# Altium integrated library TI Data Converters Digital to Analog Converter.IntLib: 1533 symbols (part 51 of 99)
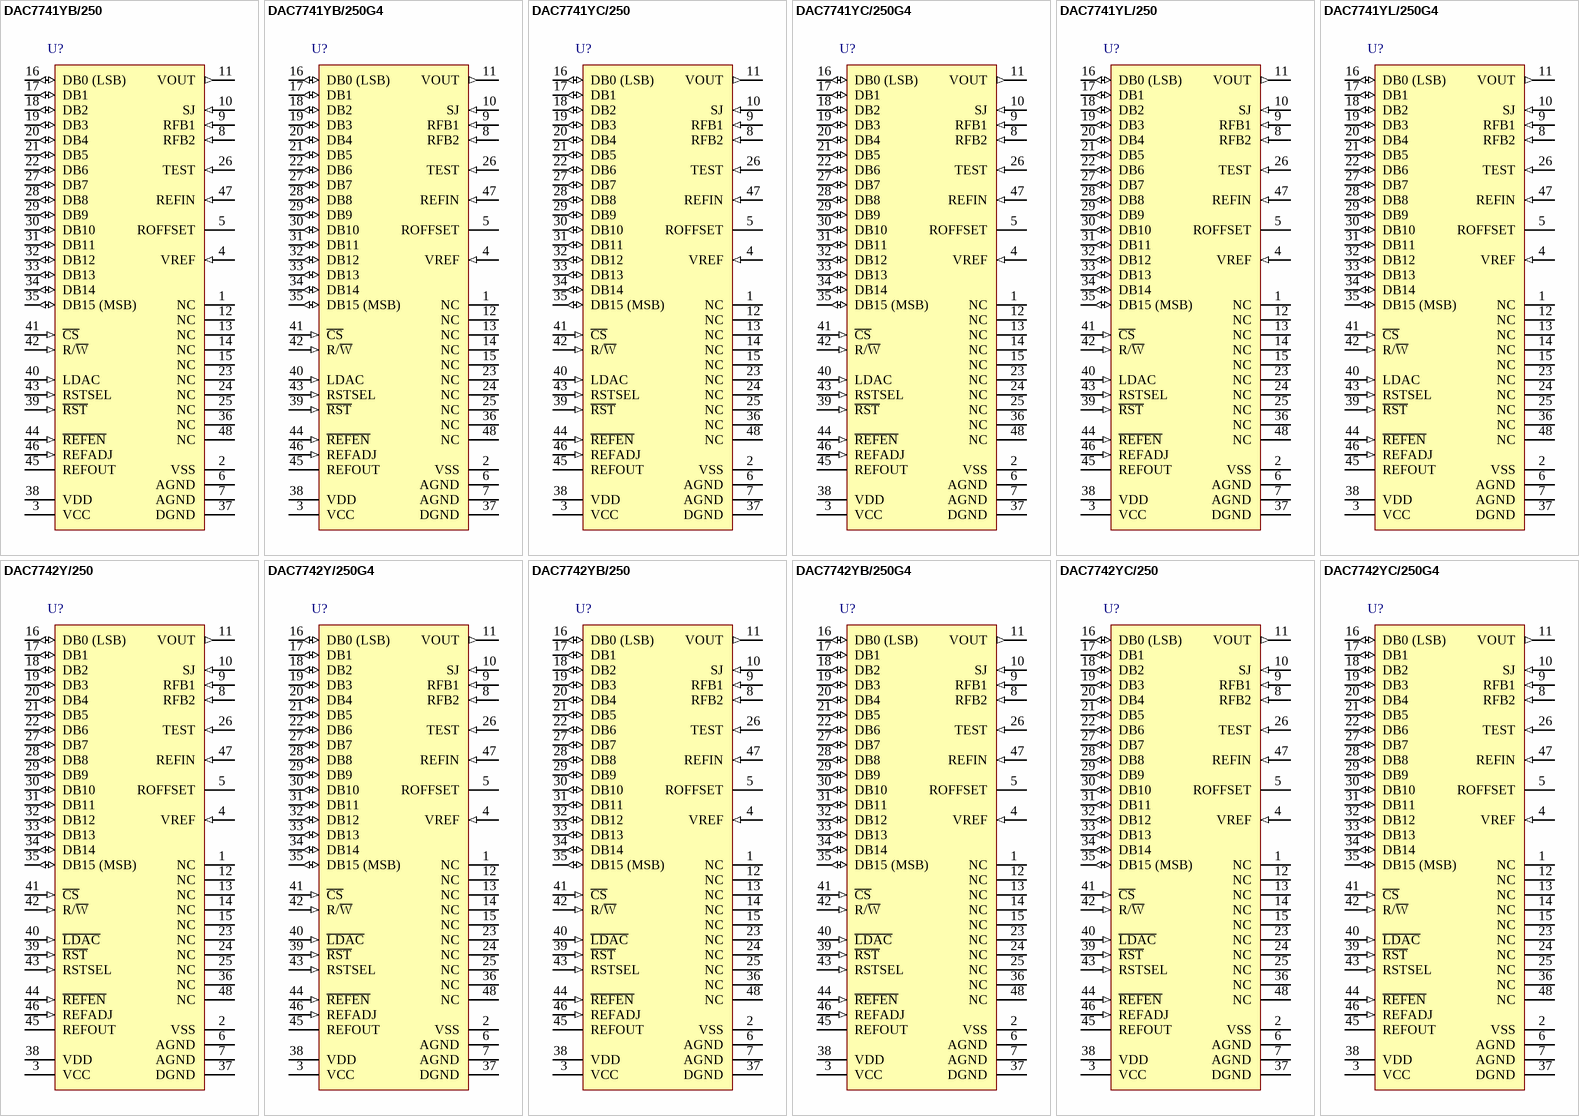
[diagram p123: symbols DAC7741YB/250 to DAC7742YC/250G4]

## DAC7742YC/250
designator U?
16-Bit, Single Channel, Parallel Interface with Internal Reference, -40 to 85 degC, 48-pin QFP (PT48), Green (RoHS & no Sb/Br); Manufacturer: Texas Instruments; PartNumber: DAC7742YC/250; DAC Channels: 1; INL(Max)(+/-LSB): 3; Power Consumption(Typ)(mW): 100; Resolution(Bits): 16; Settling Time(us): 5; SubFamily: Precision DAC (=<10MSPS); DatasheetVersion: SBAS256A; PackageVersion: 4040052/C, 11/1996; PackageReference: PT48; PackageDescription: 48-Pin Plastic Flat Pack, Body 7.00 x 7.00 mm, Pitch 0.50 mm; Supplier 1: Digi-Key; Supplier Part Number 1: 296-14168-2-ND; Supplier 2: Digi-Key; Supplier Part Number 2: 296-14168-1-ND; Supplier 3: Digi-Key; Supplier Part Number 3: 296-14168-6-ND; Supplier 4: Mouser; Supplier Part Number 4: 595-DAC7742YC/250; DNL(Max)(+/-LSB): 1; Eco-Plan: Green (RoHS & no Sb/Br); Interface: Parallel; Mounting Technology: Surface Mount; Code_JEDEC: MS-026; ComponentLink1Description: Manufacturer URL; ComponentLink1URL: http://www.ti.com/; ComponentLink2Description: Datasheet; ComponentLink2URL: http://www.ti.com/general/docs/lit/getliterature.tsp?genericPartNumber=DAC7742&fileType=pdf; ComponentLink3Description: Package Specification; ComponentLink3URL: http://www.ti.com/lit/ml/mtqf003a/mtqf003a.pdf
footprint TI-PT48_N (QFP, 48-Leads, Body 7x7mm, Pitch 0.5mm, IPC Medium Density)
footprint TI-PT48_L (QFP, 48-Leads, Body 7x7mm, Pitch 0.5mm, IPC High Density)
footprint TI-PT48_M (QFP, 48-Leads, Body 7x7mm, Pitch 0.5mm, IPC Low Density)
pins: 1 NC "No Connection", 2 VSS (power) "Negative Analog Power Supply.", 3 VCC (power) "Positive Analog Power Supply.", 4 VREF (in) "Buffered Output from REFIN, can be used to drive external devices. Internally, this pin directly drives the DAC circuitry.", 5 ROFFSET "Offsetting Resistor", 6 AGND (power) "Analog ground (Must be tied to analog ground)", 7 AGND (power) "Analog ground (Must be tied to analog ground)", 8 RFB2 (in) "Feedback Resistor 2, used to configure DAC output range.", 9 RFB1 (in) "Feedback Resistor 1, used to configure DAC output range.", 10 SJ (in) "Summing Junction of the Output Amplifier", 11 VOUT (out) "DAC Voltage Output", 12 NC "No Connection", 13 NC "No Connection", 14 NC "No Connection", 15 NC "No Connection", 16 DB0 (LSB) (io) "Data Bit 0 (LSB)", 17 DB1 (io) "Data Bit 1", 18 DB2 (io) "Data Bit 2", 19 DB3 (io) "Data Bit 3", 20 DB4 (io) "Data Bit 4", 21 DB5 (io) "Data Bit 5", 22 DB6 (io) "Data Bit 6", 23 NC "No Connection", 24 NC "No Connection", 25 NC "No Connection", 26 TEST (in) "Reserved, Connect to DGND", 27 DB7 (io) "Data Bit 7", 28 DB8 (io) "Data Bit 8", 29 DB9 (io) "Data Bit 9", 30 DB10 (io) "Data Bit 10", 31 DB11 (io) "Data Bit 11", 32 DB12 (io) "Data Bit 12", 33 DB13 (io) "Data Bit 13", 34 DB14 (io) "Data Bit 14", 35 DB15 (MSB) (io) "Data Bit 15 (MSB)", 36 NC "No Connection", 37 DGND (power) "Digital Ground", 38 VDD (power) "Digital Power Supply", 39 ~{RST} (in) "VOUT reset; active LOW, depending on the state of RSTSEL, the DAC register is either reset to midscale or min-scale.", 40 ~{LDAC} (in) "DAC register load control, active LOW. Data is loaded from the input register to the DAC register", 41 ~{CS} (in) "loaded from the input register to the DAC register", 42 R/~{W} (in) "Enabled by C\S\, controls data read (HIGH) and write (LOW) from or to the input register.", 43 RSTSEL (in) "Reset Select; determines the action of R\S\T\. If HIGH, R\S\T\ will reset the DAC register to midscale. If LOW, R\S\T\ will reset the DAC register to min-scale.", 44 ~{REFEN} (in) "Enables internal +10V reference (REFOUT), active LOW.", 45 REFOUT (hiz) "Internal Reference Output", 46 REFADJ (in) "Internal Reference Trim. (Acts as a gain adjustment input when the internal reference is used.)", 47 REFIN (in) "Reference Input", 48 NC "No Connection"

## DAC7742YC/250G4
designator U?
16-Bit, Single Channel, Parallel Interface with Internal Reference, -40 to 85 degC, 48-pin QFP (PT48), Green (RoHS & no Sb/Br); Manufacturer: Texas Instruments; PartNumber: DAC7742YC/250G4; DAC Channels: 1; INL(Max)(+/-LSB): 3; Power Consumption(Typ)(mW): 100; Resolution(Bits): 16; Settling Time(us): 5; SubFamily: Precision DAC (=<10MSPS); DatasheetVersion: SBAS256A; PackageVersion: 4040052/C, 11/1996; PackageReference: PT48; PackageDescription: 48-Pin Plastic Flat Pack, Body 7.00 x 7.00 mm, Pitch 0.50 mm; Supplier 1: Digi-Key; Supplier Part Number 1: DAC7742YC/250G4-ND; Supplier 2: Mouser; Supplier Part Number 2: 595-DAC7742YC/250G4; DNL(Max)(+/-LSB): 1; Eco-Plan: Green (RoHS & no Sb/Br); Interface: Parallel; Mounting Technology: Surface Mount; Code_JEDEC: MS-026; ComponentLink1Description: Manufacturer URL; ComponentLink1URL: http://www.ti.com/; ComponentLink2Description: Datasheet; ComponentLink2URL: http://www.ti.com/general/docs/lit/getliterature.tsp?genericPartNumber=DAC7742&fileType=pdf; ComponentLink3Description: Package Specification; ComponentLink3URL: http://www.ti.com/lit/ml/mtqf003a/mtqf003a.pdf
footprint TI-PT48_N (QFP, 48-Leads, Body 7x7mm, Pitch 0.5mm, IPC Medium Density)
footprint TI-PT48_L (QFP, 48-Leads, Body 7x7mm, Pitch 0.5mm, IPC High Density)
footprint TI-PT48_M (QFP, 48-Leads, Body 7x7mm, Pitch 0.5mm, IPC Low Density)
pins: 1 NC "No Connection", 2 VSS (power) "Negative Analog Power Supply.", 3 VCC (power) "Positive Analog Power Supply.", 4 VREF (in) "Buffered Output from REFIN, can be used to drive external devices. Internally, this pin directly drives the DAC circuitry.", 5 ROFFSET "Offsetting Resistor", 6 AGND (power) "Analog ground (Must be tied to analog ground)", 7 AGND (power) "Analog ground (Must be tied to analog ground)", 8 RFB2 (in) "Feedback Resistor 2, used to configure DAC output range.", 9 RFB1 (in) "Feedback Resistor 1, used to configure DAC output range.", 10 SJ (in) "Summing Junction of the Output Amplifier", 11 VOUT (out) "DAC Voltage Output", 12 NC "No Connection", 13 NC "No Connection", 14 NC "No Connection", 15 NC "No Connection", 16 DB0 (LSB) (io) "Data Bit 0 (LSB)", 17 DB1 (io) "Data Bit 1", 18 DB2 (io) "Data Bit 2", 19 DB3 (io) "Data Bit 3", 20 DB4 (io) "Data Bit 4", 21 DB5 (io) "Data Bit 5", 22 DB6 (io) "Data Bit 6", 23 NC "No Connection", 24 NC "No Connection", 25 NC "No Connection", 26 TEST (in) "Reserved, Connect to DGND", 27 DB7 (io) "Data Bit 7", 28 DB8 (io) "Data Bit 8", 29 DB9 (io) "Data Bit 9", 30 DB10 (io) "Data Bit 10", 31 DB11 (io) "Data Bit 11", 32 DB12 (io) "Data Bit 12", 33 DB13 (io) "Data Bit 13", 34 DB14 (io) "Data Bit 14", 35 DB15 (MSB) (io) "Data Bit 15 (MSB)", 36 NC "No Connection", 37 DGND (power) "Digital Ground", 38 VDD (power) "Digital Power Supply", 39 ~{RST} (in) "VOUT reset; active LOW, depending on the state of RSTSEL, the DAC register is either reset to midscale or min-scale.", 40 ~{LDAC} (in) "DAC register load control, active LOW. Data is loaded from the input register to the DAC register", 41 ~{CS} (in) "loaded from the input register to the DAC register", 42 R/~{W} (in) "Enabled by C\S\, controls data read (HIGH) and write (LOW) from or to the input register.", 43 RSTSEL (in) "Reset Select; determines the action of R\S\T\. If HIGH, R\S\T\ will reset the DAC register to midscale. If LOW, R\S\T\ will reset the DAC register to min-scale.", 44 ~{REFEN} (in) "Enables internal +10V reference (REFOUT), active LOW.", 45 REFOUT (hiz) "Internal Reference Output", 46 REFADJ (in) "Internal Reference Trim. (Acts as a gain adjustment input when the internal reference is used.)", 47 REFIN (in) "Reference Input", 48 NC "No Connection"

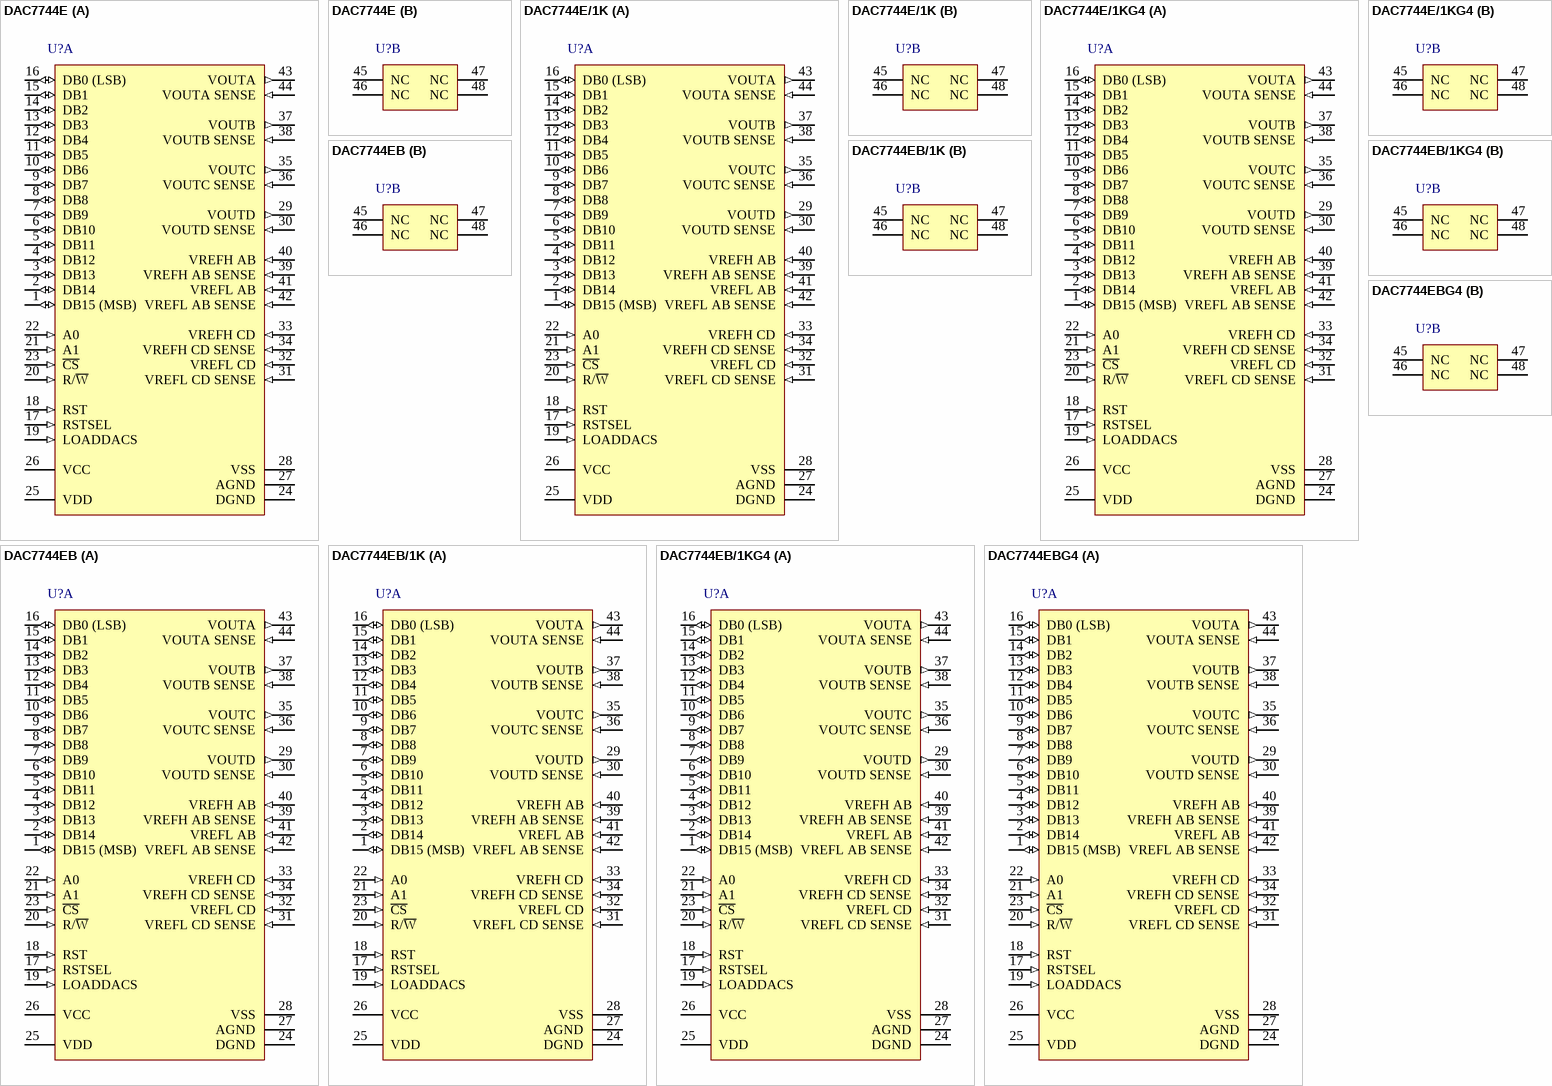
[diagram p40: symbols DAC7744E to DAC7744EBG4]

## DAC7744E
designator U?
16-Bit, Quad Voltage Output DAC, -40 to 85 degC, 48-pin SOP (DL48), Green (RoHS & no Sb/Br); Manufacturer: Texas Instruments; PartNumber: DAC7744E; DAC Channels: 4; DNL(Max)(+/-LSB): 3; Interface: Parallel; Resolution(Bits): 16; Settling Time(us): 10; SubFamily: Precision DAC (=<10MSPS); DatasheetVersion: SBAS120; PackageVersion: 4040048/E, 12/2001; PackageReference: DL48; PackageDescription: 48-Pin Plastic Small Outline, Body 7.49 x 15.88 mm, Pitch 0.635 mm; Supplier 1: Digi-Key; Supplier Part Number 1: DAC7744E-ND; Supplier 2: Mouser; Supplier Part Number 2: 595-DAC7744E; Eco-Plan: Green (RoHS & no Sb/Br); INL(Max)(+/-LSB): 3; Mounting Technology: Surface Mount; Code_JEDEC: MO-118; ComponentLink1Description: Manufacturer URL; ComponentLink1URL: http://www.ti.com/; ComponentLink2Description: Datasheet; ComponentLink2URL: http://www.ti.com/general/docs/lit/getliterature.tsp?genericPartNumber=DAC7744&fileType=pdf; ComponentLink3Description: Package Specification; ComponentLink3URL: http://www.ti.com/lit/ml/msso001c/msso001c.pdf
footprint TI-DL48_N (SOP, 48-Leads, Body 15.88x7.49mm, Pitch 0.635mm, IPC Medium Density)
footprint TI-DL48_L (SOP, 48-Leads, Body 15.88x7.49mm, Pitch 0.635mm, IPC High Density)
footprint TI-DL48_M (SOP, 48-Leads, Body 15.88x7.49mm, Pitch 0.635mm, IPC Low Density)
part A pins: 1 DB15 (MSB) (io) "Data Bit 15, MSB", 2 DB14 (io) "Data Bit 14", 3 DB13 (io) "Data Bit 13", 4 DB12 (io) "Data Bit 12", 5 DB11 (io) "Data Bit 11", 6 DB10 (io) "Data Bit 10", 7 DB9 (io) "Data Bit 9", 8 DB8 (io) "Data Bit 8", 9 DB7 (io) "Data Bit 7", 10 DB6 (io) "Data Bit 6", 11 DB5 (io) "Data Bit 5", 12 DB4 (io) "Data Bit 4", 13 DB3 (io) "Data Bit 3", 14 DB2 (io) "Data Bit 2", 15 DB1 (io) "Data Bit 1", 16 DB0 (LSB) (io) "Data Bit 0, LSB", 17 RSTSEL (in) "Reset Select. Determines the action of RST. If HIGH, a RST command will set the DAC registers to mid-scale. If LOW, a RST command will set the DAC registers to zero.", 18 RST (in) "Reset, Rising Edge Triggered. Depending on the state of RSTSEL, the DAC registers are set to either mid-scale or zero.", 19 LOADDACS (in) "DAC Output Registers Load Control. Rising edge triggered.", 20 R/~{W} (in) "Enabled by the C\S\, Controls Data Read and Write from the Input Registers.", 21 A1 (in) "Enabled by the C\S\, in Combination With A0 Selects the Individual DAC Input Registers.", 22 A0 (in) "Enabled by the C\S\, in Combination With A1 Selects the Individual DAC Input Registers.", 23 ~{CS} (in) "Chip Select. Active LOW.", 24 DGND (power) "Digital Ground", 25 VDD (power) "Positive Power Supply (digital)", 26 VCC (power) "Positive Power Supply (analog)", 27 AGND (power) "Analog Ground", 28 VSS (power) "Negative Power Supply", 29 VOUTD (out) "DAC D Voltage Output", 30 VOUTD SENSE (in) "DAC D’s Output Amplifier Inverting Input. Used to close the feedback loop at the load.", 31 VREFL CD SENSE (in) "DAC C and D Reference Low Sense Input", 32 VREFL CD (in) "DAC C and D Reference Low Input", 33 VREFH CD (in) "DAC C and D Reference High Input", 34 VREFH CD SENSE (in) "DAC C and D Reference High Sense Input", 35 VOUTC (out) "DAC C Voltage Output", 36 VOUTC SENSE (in) "DAC C’s Output Amplifier Inverting Input. Used to close the feedback loop at the load.", 37 VOUTB (out) "DAC B Voltage Output", 38 VOUTB SENSE (in) "DAC B’s Output Amplifier Inverting Input. Used to close the feedback loop at the load.", 39 VREFH AB SENSE (in) "DAC A and B Reference High Sense Input", 40 VREFH AB (in) "DAC A and B Reference High Input", 41 VREFL AB (in) "DAC A and B Reference Low Input", 42 VREFL AB SENSE (in) "DAC A and B Reference Low Sense Input", 43 VOUTA (out) "DAC A Voltage Output", 44 VOUTA SENSE (in) "DAC A’s Output Amplifier Inverting Input. Used to close the feedback loop at the load."
part B pins: 45 NC "No Connection", 46 NC "No Connection", 47 NC "No Connection", 48 NC "No Connection"

## DAC7744E/1K
designator U?
16-Bit, Quad Voltage Output DAC, -40 to 85 degC, 48-pin SOP (DL48), Green (RoHS & no Sb/Br); Manufacturer: Texas Instruments; PartNumber: DAC7744E/1K; DAC Channels: 4; DNL(Max)(+/-LSB): 3; Interface: Parallel; Resolution(Bits): 16; Settling Time(us): 10; SubFamily: Precision DAC (=<10MSPS); DatasheetVersion: SBAS120; PackageVersion: 4040048/E, 12/2001; PackageReference: DL48; PackageDescription: 48-Pin Plastic Small Outline, Body 7.49 x 15.88 mm, Pitch 0.635 mm; Supplier 1: Digi-Key; Supplier Part Number 1: DAC7744E/1K-ND; Supplier 2: Mouser; Supplier Part Number 2: 595-DAC7744E/1K; Eco-Plan: Green (RoHS & no Sb/Br); INL(Max)(+/-LSB): 3; Mounting Technology: Surface Mount; Code_JEDEC: MO-118; ComponentLink1Description: Manufacturer URL; ComponentLink1URL: http://www.ti.com/; ComponentLink2Description: Datasheet; ComponentLink2URL: http://www.ti.com/general/docs/lit/getliterature.tsp?genericPartNumber=DAC7744&fileType=pdf; ComponentLink3Description: Package Specification; ComponentLink3URL: http://www.ti.com/lit/ml/msso001c/msso001c.pdf
footprint TI-DL48_N (SOP, 48-Leads, Body 15.88x7.49mm, Pitch 0.635mm, IPC Medium Density)
footprint TI-DL48_L (SOP, 48-Leads, Body 15.88x7.49mm, Pitch 0.635mm, IPC High Density)
footprint TI-DL48_M (SOP, 48-Leads, Body 15.88x7.49mm, Pitch 0.635mm, IPC Low Density)
part A pins: 1 DB15 (MSB) (io) "Data Bit 15, MSB", 2 DB14 (io) "Data Bit 14", 3 DB13 (io) "Data Bit 13", 4 DB12 (io) "Data Bit 12", 5 DB11 (io) "Data Bit 11", 6 DB10 (io) "Data Bit 10", 7 DB9 (io) "Data Bit 9", 8 DB8 (io) "Data Bit 8", 9 DB7 (io) "Data Bit 7", 10 DB6 (io) "Data Bit 6", 11 DB5 (io) "Data Bit 5", 12 DB4 (io) "Data Bit 4", 13 DB3 (io) "Data Bit 3", 14 DB2 (io) "Data Bit 2", 15 DB1 (io) "Data Bit 1", 16 DB0 (LSB) (io) "Data Bit 0, LSB", 17 RSTSEL (in) "Reset Select. Determines the action of RST. If HIGH, a RST command will set the DAC registers to mid-scale. If LOW, a RST command will set the DAC registers to zero.", 18 RST (in) "Reset, Rising Edge Triggered. Depending on the state of RSTSEL, the DAC registers are set to either mid-scale or zero.", 19 LOADDACS (in) "DAC Output Registers Load Control. Rising edge triggered.", 20 R/~{W} (in) "Enabled by the C\S\, Controls Data Read and Write from the Input Registers.", 21 A1 (in) "Enabled by the C\S\, in Combination With A0 Selects the Individual DAC Input Registers.", 22 A0 (in) "Enabled by the C\S\, in Combination With A1 Selects the Individual DAC Input Registers.", 23 ~{CS} (in) "Chip Select. Active LOW.", 24 DGND (power) "Digital Ground", 25 VDD (power) "Positive Power Supply (digital)", 26 VCC (power) "Positive Power Supply (analog)", 27 AGND (power) "Analog Ground", 28 VSS (power) "Negative Power Supply", 29 VOUTD (out) "DAC D Voltage Output", 30 VOUTD SENSE (in) "DAC D’s Output Amplifier Inverting Input. Used to close the feedback loop at the load.", 31 VREFL CD SENSE (in) "DAC C and D Reference Low Sense Input", 32 VREFL CD (in) "DAC C and D Reference Low Input", 33 VREFH CD (in) "DAC C and D Reference High Input", 34 VREFH CD SENSE (in) "DAC C and D Reference High Sense Input", 35 VOUTC (out) "DAC C Voltage Output", 36 VOUTC SENSE (in) "DAC C’s Output Amplifier Inverting Input. Used to close the feedback loop at the load.", 37 VOUTB (out) "DAC B Voltage Output", 38 VOUTB SENSE (in) "DAC B’s Output Amplifier Inverting Input. Used to close the feedback loop at the load.", 39 VREFH AB SENSE (in) "DAC A and B Reference High Sense Input", 40 VREFH AB (in) "DAC A and B Reference High Input", 41 VREFL AB (in) "DAC A and B Reference Low Input", 42 VREFL AB SENSE (in) "DAC A and B Reference Low Sense Input", 43 VOUTA (out) "DAC A Voltage Output", 44 VOUTA SENSE (in) "DAC A’s Output Amplifier Inverting Input. Used to close the feedback loop at the load."
part B pins: 45 NC "No Connection", 46 NC "No Connection", 47 NC "No Connection", 48 NC "No Connection"

## DAC7744E/1KG4
designator U?
16-Bit, Quad Voltage Output DAC, -40 to 85 degC, 48-pin SOP (DL48), Green (RoHS & no Sb/Br); Manufacturer: Texas Instruments; PartNumber: DAC7744E/1KG4; DAC Channels: 4; DNL(Max)(+/-LSB): 3; Interface: Parallel; Resolution(Bits): 16; Settling Time(us): 10; SubFamily: Precision DAC (=<10MSPS); DatasheetVersion: SBAS120; PackageVersion: 4040048/E, 12/2001; PackageReference: DL48; PackageDescription: 48-Pin Plastic Small Outline, Body 7.49 x 15.88 mm, Pitch 0.635 mm; Supplier 1: Digi-Key; Supplier Part Number 1: DAC7744E/1KG4-ND; Supplier 2: Mouser; Supplier Part Number 2: 595-DAC7744E/1KG4; Eco-Plan: Green (RoHS & no Sb/Br); INL(Max)(+/-LSB): 3; Mounting Technology: Surface Mount; Code_JEDEC: MO-118; ComponentLink1Description: Manufacturer URL; ComponentLink1URL: http://www.ti.com/; ComponentLink2Description: Datasheet; ComponentLink2URL: http://www.ti.com/general/docs/lit/getliterature.tsp?genericPartNumber=DAC7744&fileType=pdf; ComponentLink3Description: Package Specification; ComponentLink3URL: http://www.ti.com/lit/ml/msso001c/msso001c.pdf
footprint TI-DL48_N (SOP, 48-Leads, Body 15.88x7.49mm, Pitch 0.635mm, IPC Medium Density)
footprint TI-DL48_L (SOP, 48-Leads, Body 15.88x7.49mm, Pitch 0.635mm, IPC High Density)
footprint TI-DL48_M (SOP, 48-Leads, Body 15.88x7.49mm, Pitch 0.635mm, IPC Low Density)
part A pins: 1 DB15 (MSB) (io) "Data Bit 15, MSB", 2 DB14 (io) "Data Bit 14", 3 DB13 (io) "Data Bit 13", 4 DB12 (io) "Data Bit 12", 5 DB11 (io) "Data Bit 11", 6 DB10 (io) "Data Bit 10", 7 DB9 (io) "Data Bit 9", 8 DB8 (io) "Data Bit 8", 9 DB7 (io) "Data Bit 7", 10 DB6 (io) "Data Bit 6", 11 DB5 (io) "Data Bit 5", 12 DB4 (io) "Data Bit 4", 13 DB3 (io) "Data Bit 3", 14 DB2 (io) "Data Bit 2", 15 DB1 (io) "Data Bit 1", 16 DB0 (LSB) (io) "Data Bit 0, LSB", 17 RSTSEL (in) "Reset Select. Determines the action of RST. If HIGH, a RST command will set the DAC registers to mid-scale. If LOW, a RST command will set the DAC registers to zero.", 18 RST (in) "Reset, Rising Edge Triggered. Depending on the state of RSTSEL, the DAC registers are set to either mid-scale or zero.", 19 LOADDACS (in) "DAC Output Registers Load Control. Rising edge triggered.", 20 R/~{W} (in) "Enabled by the C\S\, Controls Data Read and Write from the Input Registers.", 21 A1 (in) "Enabled by the C\S\, in Combination With A0 Selects the Individual DAC Input Registers.", 22 A0 (in) "Enabled by the C\S\, in Combination With A1 Selects the Individual DAC Input Registers.", 23 ~{CS} (in) "Chip Select. Active LOW.", 24 DGND (power) "Digital Ground", 25 VDD (power) "Positive Power Supply (digital)", 26 VCC (power) "Positive Power Supply (analog)", 27 AGND (power) "Analog Ground", 28 VSS (power) "Negative Power Supply", 29 VOUTD (out) "DAC D Voltage Output", 30 VOUTD SENSE (in) "DAC D’s Output Amplifier Inverting Input. Used to close the feedback loop at the load.", 31 VREFL CD SENSE (in) "DAC C and D Reference Low Sense Input", 32 VREFL CD (in) "DAC C and D Reference Low Input", 33 VREFH CD (in) "DAC C and D Reference High Input", 34 VREFH CD SENSE (in) "DAC C and D Reference High Sense Input", 35 VOUTC (out) "DAC C Voltage Output", 36 VOUTC SENSE (in) "DAC C’s Output Amplifier Inverting Input. Used to close the feedback loop at the load.", 37 VOUTB (out) "DAC B Voltage Output", 38 VOUTB SENSE (in) "DAC B’s Output Amplifier Inverting Input. Used to close the feedback loop at the load.", 39 VREFH AB SENSE (in) "DAC A and B Reference High Sense Input", 40 VREFH AB (in) "DAC A and B Reference High Input", 41 VREFL AB (in) "DAC A and B Reference Low Input", 42 VREFL AB SENSE (in) "DAC A and B Reference Low Sense Input", 43 VOUTA (out) "DAC A Voltage Output", 44 VOUTA SENSE (in) "DAC A’s Output Amplifier Inverting Input. Used to close the feedback loop at the load."
part B pins: 45 NC "No Connection", 46 NC "No Connection", 47 NC "No Connection", 48 NC "No Connection"

## DAC7744EB
designator U?
16-Bit, Quad Voltage Output DAC, -40 to 85 degC, 48-pin SOP (DL48), Green (RoHS & no Sb/Br); Manufacturer: Texas Instruments; PartNumber: DAC7744EB; DAC Channels: 4; DNL(Max)(+/-LSB): 2; INL(Max)(+/-LSB): 3; Interface: Parallel; Resolution(Bits): 16; Settling Time(us): 10; SubFamily: Precision DAC (=<10MSPS); DatasheetVersion: SBAS120; PackageVersion: 4040048/E, 12/2001; PackageReference: DL48; PackageDescription: 48-Pin Plastic Small Outline, Body 7.49 x 15.88 mm, Pitch 0.635 mm; Supplier 1: Digi-Key; Supplier Part Number 1: DAC7744EB-ND; Supplier 2: Farnell; Supplier Part Number 2: 1460231; Supplier 3: Mouser; Supplier Part Number 3: 595-DAC7744EB; Eco-Plan: Green (RoHS & no Sb/Br); Mounting Technology: Surface Mount; Code_JEDEC: MO-118; ComponentLink1Description: Manufacturer URL; ComponentLink1URL: http://www.ti.com/; ComponentLink2Description: Datasheet; ComponentLink2URL: http://www.ti.com/general/docs/lit/getliterature.tsp?genericPartNumber=DAC7744&fileType=pdf; ComponentLink3Description: Package Specification; ComponentLink3URL: http://www.ti.com/lit/ml/msso001c/msso001c.pdf
footprint TI-DL48_N (SOP, 48-Leads, Body 15.88x7.49mm, Pitch 0.635mm, IPC Medium Density)
footprint TI-DL48_L (SOP, 48-Leads, Body 15.88x7.49mm, Pitch 0.635mm, IPC High Density)
footprint TI-DL48_M (SOP, 48-Leads, Body 15.88x7.49mm, Pitch 0.635mm, IPC Low Density)
part A pins: 1 DB15 (MSB) (io) "Data Bit 15, MSB", 2 DB14 (io) "Data Bit 14", 3 DB13 (io) "Data Bit 13", 4 DB12 (io) "Data Bit 12", 5 DB11 (io) "Data Bit 11", 6 DB10 (io) "Data Bit 10", 7 DB9 (io) "Data Bit 9", 8 DB8 (io) "Data Bit 8", 9 DB7 (io) "Data Bit 7", 10 DB6 (io) "Data Bit 6", 11 DB5 (io) "Data Bit 5", 12 DB4 (io) "Data Bit 4", 13 DB3 (io) "Data Bit 3", 14 DB2 (io) "Data Bit 2", 15 DB1 (io) "Data Bit 1", 16 DB0 (LSB) (io) "Data Bit 0, LSB", 17 RSTSEL (in) "Reset Select. Determines the action of RST. If HIGH, a RST command will set the DAC registers to mid-scale. If LOW, a RST command will set the DAC registers to zero.", 18 RST (in) "Reset, Rising Edge Triggered. Depending on the state of RSTSEL, the DAC registers are set to either mid-scale or zero.", 19 LOADDACS (in) "DAC Output Registers Load Control. Rising edge triggered.", 20 R/~{W} (in) "Enabled by the C\S\, Controls Data Read and Write from the Input Registers.", 21 A1 (in) "Enabled by the C\S\, in Combination With A0 Selects the Individual DAC Input Registers.", 22 A0 (in) "Enabled by the C\S\, in Combination With A1 Selects the Individual DAC Input Registers.", 23 ~{CS} (in) "Chip Select. Active LOW.", 24 DGND (power) "Digital Ground", 25 VDD (power) "Positive Power Supply (digital)", 26 VCC (power) "Positive Power Supply (analog)", 27 AGND (power) "Analog Ground", 28 VSS (power) "Negative Power Supply", 29 VOUTD (out) "DAC D Voltage Output", 30 VOUTD SENSE (in) "DAC D’s Output Amplifier Inverting Input. Used to close the feedback loop at the load.", 31 VREFL CD SENSE (in) "DAC C and D Reference Low Sense Input", 32 VREFL CD (in) "DAC C and D Reference Low Input", 33 VREFH CD (in) "DAC C and D Reference High Input", 34 VREFH CD SENSE (in) "DAC C and D Reference High Sense Input", 35 VOUTC (out) "DAC C Voltage Output", 36 VOUTC SENSE (in) "DAC C’s Output Amplifier Inverting Input. Used to close the feedback loop at the load.", 37 VOUTB (out) "DAC B Voltage Output", 38 VOUTB SENSE (in) "DAC B’s Output Amplifier Inverting Input. Used to close the feedback loop at the load.", 39 VREFH AB SENSE (in) "DAC A and B Reference High Sense Input", 40 VREFH AB (in) "DAC A and B Reference High Input", 41 VREFL AB (in) "DAC A and B Reference Low Input", 42 VREFL AB SENSE (in) "DAC A and B Reference Low Sense Input", 43 VOUTA (out) "DAC A Voltage Output", 44 VOUTA SENSE (in) "DAC A’s Output Amplifier Inverting Input. Used to close the feedback loop at the load."
part B pins: 45 NC "No Connection", 46 NC "No Connection", 47 NC "No Connection", 48 NC "No Connection"

## DAC7744EB/1K
designator U?
16-Bit, Quad Voltage Output DAC, -40 to 85 degC, 48-pin SOP (DL48), Green (RoHS & no Sb/Br); Manufacturer: Texas Instruments; PartNumber: DAC7744EB/1K; DAC Channels: 4; DNL(Max)(+/-LSB): 2; INL(Max)(+/-LSB): 3; Interface: Parallel; Resolution(Bits): 16; Settling Time(us): 10; SubFamily: Precision DAC (=<10MSPS); DatasheetVersion: SBAS120; PackageVersion: 4040048/E, 12/2001; PackageReference: DL48; PackageDescription: 48-Pin Plastic Small Outline, Body 7.49 x 15.88 mm, Pitch 0.635 mm; Supplier 1: Digi-Key; Supplier Part Number 1: DAC7744EB/1K-ND; Supplier 2: Mouser; Supplier Part Number 2: 595-DAC7744EB/1K; Eco-Plan: Green (RoHS & no Sb/Br); Mounting Technology: Surface Mount; Code_JEDEC: MO-118; ComponentLink1Description: Manufacturer URL; ComponentLink1URL: http://www.ti.com/; ComponentLink2Description: Datasheet; ComponentLink2URL: http://www.ti.com/general/docs/lit/getliterature.tsp?genericPartNumber=DAC7744&fileType=pdf; ComponentLink3Description: Package Specification; ComponentLink3URL: http://www.ti.com/lit/ml/msso001c/msso001c.pdf
footprint TI-DL48_N (SOP, 48-Leads, Body 15.88x7.49mm, Pitch 0.635mm, IPC Medium Density)
footprint TI-DL48_L (SOP, 48-Leads, Body 15.88x7.49mm, Pitch 0.635mm, IPC High Density)
footprint TI-DL48_M (SOP, 48-Leads, Body 15.88x7.49mm, Pitch 0.635mm, IPC Low Density)
part A pins: 1 DB15 (MSB) (io) "Data Bit 15, MSB", 2 DB14 (io) "Data Bit 14", 3 DB13 (io) "Data Bit 13", 4 DB12 (io) "Data Bit 12", 5 DB11 (io) "Data Bit 11", 6 DB10 (io) "Data Bit 10", 7 DB9 (io) "Data Bit 9", 8 DB8 (io) "Data Bit 8", 9 DB7 (io) "Data Bit 7", 10 DB6 (io) "Data Bit 6", 11 DB5 (io) "Data Bit 5", 12 DB4 (io) "Data Bit 4", 13 DB3 (io) "Data Bit 3", 14 DB2 (io) "Data Bit 2", 15 DB1 (io) "Data Bit 1", 16 DB0 (LSB) (io) "Data Bit 0, LSB", 17 RSTSEL (in) "Reset Select. Determines the action of RST. If HIGH, a RST command will set the DAC registers to mid-scale. If LOW, a RST command will set the DAC registers to zero.", 18 RST (in) "Reset, Rising Edge Triggered. Depending on the state of RSTSEL, the DAC registers are set to either mid-scale or zero.", 19 LOADDACS (in) "DAC Output Registers Load Control. Rising edge triggered.", 20 R/~{W} (in) "Enabled by the C\S\, Controls Data Read and Write from the Input Registers.", 21 A1 (in) "Enabled by the C\S\, in Combination With A0 Selects the Individual DAC Input Registers.", 22 A0 (in) "Enabled by the C\S\, in Combination With A1 Selects the Individual DAC Input Registers.", 23 ~{CS} (in) "Chip Select. Active LOW.", 24 DGND (power) "Digital Ground", 25 VDD (power) "Positive Power Supply (digital)", 26 VCC (power) "Positive Power Supply (analog)", 27 AGND (power) "Analog Ground", 28 VSS (power) "Negative Power Supply", 29 VOUTD (out) "DAC D Voltage Output", 30 VOUTD SENSE (in) "DAC D’s Output Amplifier Inverting Input. Used to close the feedback loop at the load.", 31 VREFL CD SENSE (in) "DAC C and D Reference Low Sense Input", 32 VREFL CD (in) "DAC C and D Reference Low Input", 33 VREFH CD (in) "DAC C and D Reference High Input", 34 VREFH CD SENSE (in) "DAC C and D Reference High Sense Input", 35 VOUTC (out) "DAC C Voltage Output", 36 VOUTC SENSE (in) "DAC C’s Output Amplifier Inverting Input. Used to close the feedback loop at the load.", 37 VOUTB (out) "DAC B Voltage Output", 38 VOUTB SENSE (in) "DAC B’s Output Amplifier Inverting Input. Used to close the feedback loop at the load.", 39 VREFH AB SENSE (in) "DAC A and B Reference High Sense Input", 40 VREFH AB (in) "DAC A and B Reference High Input", 41 VREFL AB (in) "DAC A and B Reference Low Input", 42 VREFL AB SENSE (in) "DAC A and B Reference Low Sense Input", 43 VOUTA (out) "DAC A Voltage Output", 44 VOUTA SENSE (in) "DAC A’s Output Amplifier Inverting Input. Used to close the feedback loop at the load."
part B pins: 45 NC "No Connection", 46 NC "No Connection", 47 NC "No Connection", 48 NC "No Connection"

## DAC7744EB/1KG4
designator U?
16-Bit, Quad Voltage Output DAC, -40 to 85 degC, 48-pin SOP (DL48), Green (RoHS & no Sb/Br); Manufacturer: Texas Instruments; PartNumber: DAC7744EB/1KG4; DAC Channels: 4; DNL(Max)(+/-LSB): 2; INL(Max)(+/-LSB): 3; Interface: Parallel; Resolution(Bits): 16; Settling Time(us): 10; SubFamily: Precision DAC (=<10MSPS); DatasheetVersion: SBAS120; PackageVersion: 4040048/E, 12/2001; PackageReference: DL48; PackageDescription: 48-Pin Plastic Small Outline, Body 7.49 x 15.88 mm, Pitch 0.635 mm; Supplier 1: Digi-Key; Supplier Part Number 1: DAC7744EB/1KG4-ND; Supplier 2: Mouser; Supplier Part Number 2: 595-DAC7744EB/1KG4; Eco-Plan: Green (RoHS & no Sb/Br); Mounting Technology: Surface Mount; Code_JEDEC: MO-118; ComponentLink1Description: Manufacturer URL; ComponentLink1URL: http://www.ti.com/; ComponentLink2Description: Datasheet; ComponentLink2URL: http://www.ti.com/general/docs/lit/getliterature.tsp?genericPartNumber=DAC7744&fileType=pdf; ComponentLink3Description: Package Specification; ComponentLink3URL: http://www.ti.com/lit/ml/msso001c/msso001c.pdf
footprint TI-DL48_N (SOP, 48-Leads, Body 15.88x7.49mm, Pitch 0.635mm, IPC Medium Density)
footprint TI-DL48_L (SOP, 48-Leads, Body 15.88x7.49mm, Pitch 0.635mm, IPC High Density)
footprint TI-DL48_M (SOP, 48-Leads, Body 15.88x7.49mm, Pitch 0.635mm, IPC Low Density)
part A pins: 1 DB15 (MSB) (io) "Data Bit 15, MSB", 2 DB14 (io) "Data Bit 14", 3 DB13 (io) "Data Bit 13", 4 DB12 (io) "Data Bit 12", 5 DB11 (io) "Data Bit 11", 6 DB10 (io) "Data Bit 10", 7 DB9 (io) "Data Bit 9", 8 DB8 (io) "Data Bit 8", 9 DB7 (io) "Data Bit 7", 10 DB6 (io) "Data Bit 6", 11 DB5 (io) "Data Bit 5", 12 DB4 (io) "Data Bit 4", 13 DB3 (io) "Data Bit 3", 14 DB2 (io) "Data Bit 2", 15 DB1 (io) "Data Bit 1", 16 DB0 (LSB) (io) "Data Bit 0, LSB", 17 RSTSEL (in) "Reset Select. Determines the action of RST. If HIGH, a RST command will set the DAC registers to mid-scale. If LOW, a RST command will set the DAC registers to zero.", 18 RST (in) "Reset, Rising Edge Triggered. Depending on the state of RSTSEL, the DAC registers are set to either mid-scale or zero.", 19 LOADDACS (in) "DAC Output Registers Load Control. Rising edge triggered.", 20 R/~{W} (in) "Enabled by the C\S\, Controls Data Read and Write from the Input Registers.", 21 A1 (in) "Enabled by the C\S\, in Combination With A0 Selects the Individual DAC Input Registers.", 22 A0 (in) "Enabled by the C\S\, in Combination With A1 Selects the Individual DAC Input Registers.", 23 ~{CS} (in) "Chip Select. Active LOW.", 24 DGND (power) "Digital Ground", 25 VDD (power) "Positive Power Supply (digital)", 26 VCC (power) "Positive Power Supply (analog)", 27 AGND (power) "Analog Ground", 28 VSS (power) "Negative Power Supply", 29 VOUTD (out) "DAC D Voltage Output", 30 VOUTD SENSE (in) "DAC D’s Output Amplifier Inverting Input. Used to close the feedback loop at the load.", 31 VREFL CD SENSE (in) "DAC C and D Reference Low Sense Input", 32 VREFL CD (in) "DAC C and D Reference Low Input", 33 VREFH CD (in) "DAC C and D Reference High Input", 34 VREFH CD SENSE (in) "DAC C and D Reference High Sense Input", 35 VOUTC (out) "DAC C Voltage Output", 36 VOUTC SENSE (in) "DAC C’s Output Amplifier Inverting Input. Used to close the feedback loop at the load.", 37 VOUTB (out) "DAC B Voltage Output", 38 VOUTB SENSE (in) "DAC B’s Output Amplifier Inverting Input. Used to close the feedback loop at the load.", 39 VREFH AB SENSE (in) "DAC A and B Reference High Sense Input", 40 VREFH AB (in) "DAC A and B Reference High Input", 41 VREFL AB (in) "DAC A and B Reference Low Input", 42 VREFL AB SENSE (in) "DAC A and B Reference Low Sense Input", 43 VOUTA (out) "DAC A Voltage Output", 44 VOUTA SENSE (in) "DAC A’s Output Amplifier Inverting Input. Used to close the feedback loop at the load."
part B pins: 45 NC "No Connection", 46 NC "No Connection", 47 NC "No Connection", 48 NC "No Connection"

## DAC7744EBG4
designator U?
16-Bit, Quad Voltage Output DAC, -40 to 85 degC, 48-pin SOP (DL48), Green (RoHS & no Sb/Br); Manufacturer: Texas Instruments; PartNumber: DAC7744EBG4; DAC Channels: 4; DNL(Max)(+/-LSB): 2; INL(Max)(+/-LSB): 3; Interface: Parallel; Resolution(Bits): 16; Settling Time(us): 10; SubFamily: Precision DAC (=<10MSPS); DatasheetVersion: SBAS120; PackageVersion: 4040048/E, 12/2001; PackageReference: DL48; PackageDescription: 48-Pin Plastic Small Outline, Body 7.49 x 15.88 mm, Pitch 0.635 mm; Supplier 1: Digi-Key; Supplier Part Number 1: DAC7744EBG4-ND; Supplier 2: Mouser; Supplier Part Number 2: 595-DAC7744EBG4; Eco-Plan: Green (RoHS & no Sb/Br); Mounting Technology: Surface Mount; Code_JEDEC: MO-118; ComponentLink1Description: Manufacturer URL; ComponentLink1URL: http://www.ti.com/; ComponentLink2Description: Datasheet; ComponentLink2URL: http://www.ti.com/general/docs/lit/getliterature.tsp?genericPartNumber=DAC7744&fileType=pdf; ComponentLink3Description: Package Specification; ComponentLink3URL: http://www.ti.com/lit/ml/msso001c/msso001c.pdf
footprint TI-DL48_N (SOP, 48-Leads, Body 15.88x7.49mm, Pitch 0.635mm, IPC Medium Density)
footprint TI-DL48_L (SOP, 48-Leads, Body 15.88x7.49mm, Pitch 0.635mm, IPC High Density)
footprint TI-DL48_M (SOP, 48-Leads, Body 15.88x7.49mm, Pitch 0.635mm, IPC Low Density)
part A pins: 1 DB15 (MSB) (io) "Data Bit 15, MSB", 2 DB14 (io) "Data Bit 14", 3 DB13 (io) "Data Bit 13", 4 DB12 (io) "Data Bit 12", 5 DB11 (io) "Data Bit 11", 6 DB10 (io) "Data Bit 10", 7 DB9 (io) "Data Bit 9", 8 DB8 (io) "Data Bit 8", 9 DB7 (io) "Data Bit 7", 10 DB6 (io) "Data Bit 6", 11 DB5 (io) "Data Bit 5", 12 DB4 (io) "Data Bit 4", 13 DB3 (io) "Data Bit 3", 14 DB2 (io) "Data Bit 2", 15 DB1 (io) "Data Bit 1", 16 DB0 (LSB) (io) "Data Bit 0, LSB", 17 RSTSEL (in) "Reset Select. Determines the action of RST. If HIGH, a RST command will set the DAC registers to mid-scale. If LOW, a RST command will set the DAC registers to zero.", 18 RST (in) "Reset, Rising Edge Triggered. Depending on the state of RSTSEL, the DAC registers are set to either mid-scale or zero.", 19 LOADDACS (in) "DAC Output Registers Load Control. Rising edge triggered.", 20 R/~{W} (in) "Enabled by the C\S\, Controls Data Read and Write from the Input Registers.", 21 A1 (in) "Enabled by the C\S\, in Combination With A0 Selects the Individual DAC Input Registers.", 22 A0 (in) "Enabled by the C\S\, in Combination With A1 Selects the Individual DAC Input Registers.", 23 ~{CS} (in) "Chip Select. Active LOW.", 24 DGND (power) "Digital Ground", 25 VDD (power) "Positive Power Supply (digital)", 26 VCC (power) "Positive Power Supply (analog)", 27 AGND (power) "Analog Ground", 28 VSS (power) "Negative Power Supply", 29 VOUTD (out) "DAC D Voltage Output", 30 VOUTD SENSE (in) "DAC D’s Output Amplifier Inverting Input. Used to close the feedback loop at the load.", 31 VREFL CD SENSE (in) "DAC C and D Reference Low Sense Input", 32 VREFL CD (in) "DAC C and D Reference Low Input", 33 VREFH CD (in) "DAC C and D Reference High Input", 34 VREFH CD SENSE (in) "DAC C and D Reference High Sense Input", 35 VOUTC (out) "DAC C Voltage Output", 36 VOUTC SENSE (in) "DAC C’s Output Amplifier Inverting Input. Used to close the feedback loop at the load.", 37 VOUTB (out) "DAC B Voltage Output", 38 VOUTB SENSE (in) "DAC B’s Output Amplifier Inverting Input. Used to close the feedback loop at the load.", 39 VREFH AB SENSE (in) "DAC A and B Reference High Sense Input", 40 VREFH AB (in) "DAC A and B Reference High Input", 41 VREFL AB (in) "DAC A and B Reference Low Input", 42 VREFL AB SENSE (in) "DAC A and B Reference Low Sense Input", 43 VOUTA (out) "DAC A Voltage Output", 44 VOUTA SENSE (in) "DAC A’s Output Amplifier Inverting Input. Used to close the feedback loop at the load."
part B pins: 45 NC "No Connection", 46 NC "No Connection", 47 NC "No Connection", 48 NC "No Connection"

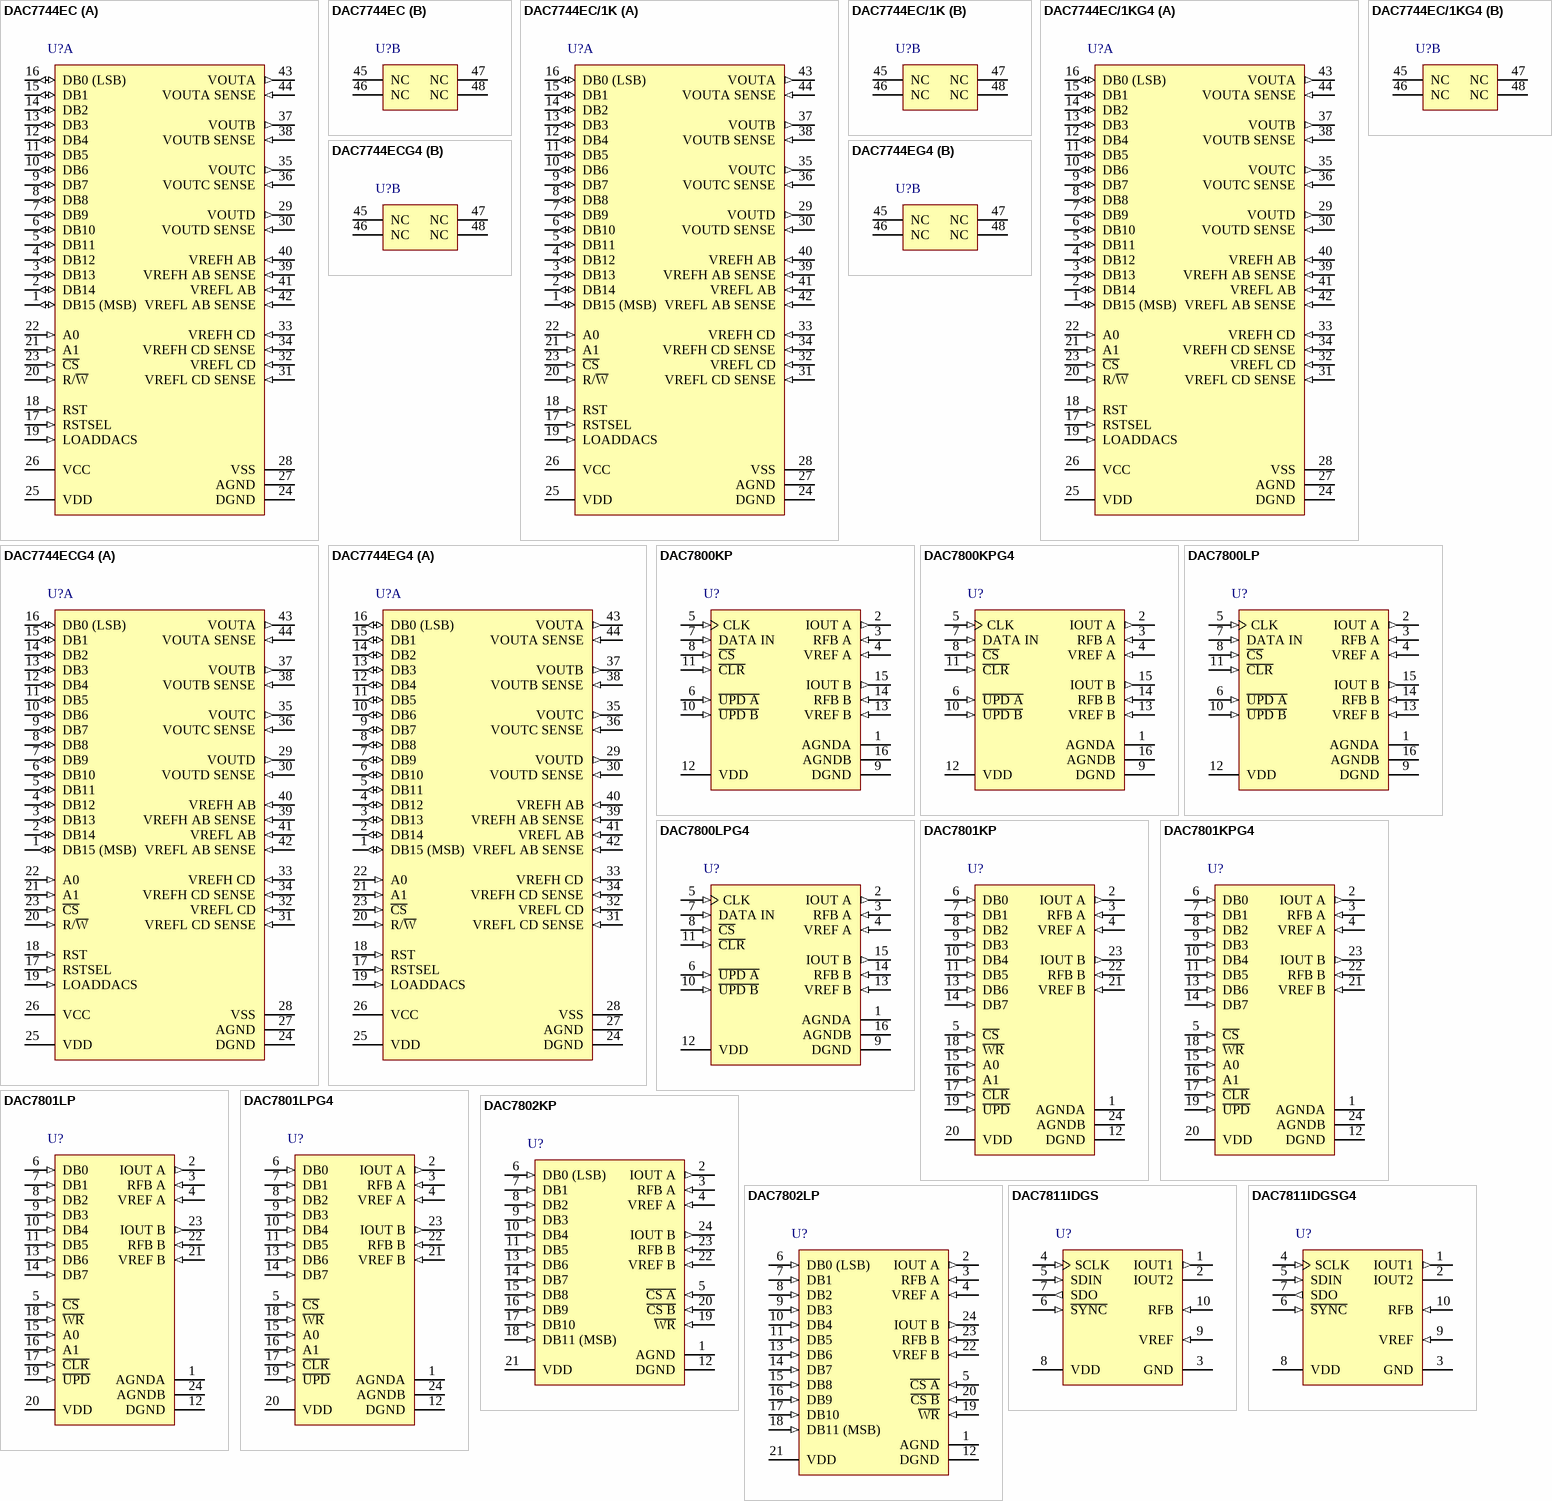
[diagram p41: symbols DAC7744EC to DAC7811IDGSG4]

## DAC7744EC
designator U?
16-Bit, Quad Voltage Output DAC, -40 to 85 degC, 48-pin SOP (DL48), Green (RoHS & no Sb/Br); Manufacturer: Texas Instruments; PartNumber: DAC7744EC; DAC Channels: 4; DNL(Max)(+/-LSB): 1; INL(Max)(+/-LSB): 2; Interface: Parallel; Resolution(Bits): 16; Settling Time(us): 10; SubFamily: Precision DAC (=<10MSPS); DatasheetVersion: SBAS120; PackageVersion: 4040048/E, 12/2001; PackageReference: DL48; PackageDescription: 48-Pin Plastic Small Outline, Body 7.49 x 15.88 mm, Pitch 0.635 mm; Supplier 1: Digi-Key; Supplier Part Number 1: DAC7744EC-ND; Supplier 2: Farnell; Supplier Part Number 2: 4808848; Supplier 3: Newark; Supplier Part Number 3: 35C1655; Supplier 4: Mouser; Supplier Part Number 4: 595-DAC7744EC; Eco-Plan: Green (RoHS & no Sb/Br); Mounting Technology: Surface Mount; Code_JEDEC: MO-118; ComponentLink1Description: Manufacturer URL; ComponentLink1URL: http://www.ti.com/; ComponentLink2Description: Datasheet; ComponentLink2URL: http://www.ti.com/general/docs/lit/getliterature.tsp?genericPartNumber=DAC7744&fileType=pdf; ComponentLink3Description: Package Specification; ComponentLink3URL: http://www.ti.com/lit/ml/msso001c/msso001c.pdf
footprint TI-DL48_N (SOP, 48-Leads, Body 15.88x7.49mm, Pitch 0.635mm, IPC Medium Density)
footprint TI-DL48_L (SOP, 48-Leads, Body 15.88x7.49mm, Pitch 0.635mm, IPC High Density)
footprint TI-DL48_M (SOP, 48-Leads, Body 15.88x7.49mm, Pitch 0.635mm, IPC Low Density)
part A pins: 1 DB15 (MSB) (io) "Data Bit 15, MSB", 2 DB14 (io) "Data Bit 14", 3 DB13 (io) "Data Bit 13", 4 DB12 (io) "Data Bit 12", 5 DB11 (io) "Data Bit 11", 6 DB10 (io) "Data Bit 10", 7 DB9 (io) "Data Bit 9", 8 DB8 (io) "Data Bit 8", 9 DB7 (io) "Data Bit 7", 10 DB6 (io) "Data Bit 6", 11 DB5 (io) "Data Bit 5", 12 DB4 (io) "Data Bit 4", 13 DB3 (io) "Data Bit 3", 14 DB2 (io) "Data Bit 2", 15 DB1 (io) "Data Bit 1", 16 DB0 (LSB) (io) "Data Bit 0, LSB", 17 RSTSEL (in) "Reset Select. Determines the action of RST. If HIGH, a RST command will set the DAC registers to mid-scale. If LOW, a RST command will set the DAC registers to zero.", 18 RST (in) "Reset, Rising Edge Triggered. Depending on the state of RSTSEL, the DAC registers are set to either mid-scale or zero.", 19 LOADDACS (in) "DAC Output Registers Load Control. Rising edge triggered.", 20 R/~{W} (in) "Enabled by the C\S\, Controls Data Read and Write from the Input Registers.", 21 A1 (in) "Enabled by the C\S\, in Combination With A0 Selects the Individual DAC Input Registers.", 22 A0 (in) "Enabled by the C\S\, in Combination With A1 Selects the Individual DAC Input Registers.", 23 ~{CS} (in) "Chip Select. Active LOW.", 24 DGND (power) "Digital Ground", 25 VDD (power) "Positive Power Supply (digital)", 26 VCC (power) "Positive Power Supply (analog)", 27 AGND (power) "Analog Ground", 28 VSS (power) "Negative Power Supply", 29 VOUTD (out) "DAC D Voltage Output", 30 VOUTD SENSE (in) "DAC D’s Output Amplifier Inverting Input. Used to close the feedback loop at the load.", 31 VREFL CD SENSE (in) "DAC C and D Reference Low Sense Input", 32 VREFL CD (in) "DAC C and D Reference Low Input", 33 VREFH CD (in) "DAC C and D Reference High Input", 34 VREFH CD SENSE (in) "DAC C and D Reference High Sense Input", 35 VOUTC (out) "DAC C Voltage Output", 36 VOUTC SENSE (in) "DAC C’s Output Amplifier Inverting Input. Used to close the feedback loop at the load.", 37 VOUTB (out) "DAC B Voltage Output", 38 VOUTB SENSE (in) "DAC B’s Output Amplifier Inverting Input. Used to close the feedback loop at the load.", 39 VREFH AB SENSE (in) "DAC A and B Reference High Sense Input", 40 VREFH AB (in) "DAC A and B Reference High Input", 41 VREFL AB (in) "DAC A and B Reference Low Input", 42 VREFL AB SENSE (in) "DAC A and B Reference Low Sense Input", 43 VOUTA (out) "DAC A Voltage Output", 44 VOUTA SENSE (in) "DAC A’s Output Amplifier Inverting Input. Used to close the feedback loop at the load."
part B pins: 45 NC "No Connection", 46 NC "No Connection", 47 NC "No Connection", 48 NC "No Connection"

## DAC7744EC/1K
designator U?
16-Bit, Quad Voltage Output DAC, -40 to 85 degC, 48-pin SOP (DL48), Green (RoHS & no Sb/Br); Manufacturer: Texas Instruments; PartNumber: DAC7744EC/1K; DAC Channels: 4; DNL(Max)(+/-LSB): 1; INL(Max)(+/-LSB): 2; Interface: Parallel; Resolution(Bits): 16; Settling Time(us): 10; SubFamily: Precision DAC (=<10MSPS); DatasheetVersion: SBAS120; PackageVersion: 4040048/E, 12/2001; PackageReference: DL48; PackageDescription: 48-Pin Plastic Small Outline, Body 7.49 x 15.88 mm, Pitch 0.635 mm; Supplier 1: Digi-Key; Supplier Part Number 1: DAC7744EC/1K-ND; Supplier 2: Mouser; Supplier Part Number 2: 595-DAC7744EC/1K; Eco-Plan: Green (RoHS & no Sb/Br); Mounting Technology: Surface Mount; Code_JEDEC: MO-118; ComponentLink1Description: Manufacturer URL; ComponentLink1URL: http://www.ti.com/; ComponentLink2Description: Datasheet; ComponentLink2URL: http://www.ti.com/general/docs/lit/getliterature.tsp?genericPartNumber=DAC7744&fileType=pdf; ComponentLink3Description: Package Specification; ComponentLink3URL: http://www.ti.com/lit/ml/msso001c/msso001c.pdf
footprint TI-DL48_N (SOP, 48-Leads, Body 15.88x7.49mm, Pitch 0.635mm, IPC Medium Density)
footprint TI-DL48_L (SOP, 48-Leads, Body 15.88x7.49mm, Pitch 0.635mm, IPC High Density)
footprint TI-DL48_M (SOP, 48-Leads, Body 15.88x7.49mm, Pitch 0.635mm, IPC Low Density)
part A pins: 1 DB15 (MSB) (io) "Data Bit 15, MSB", 2 DB14 (io) "Data Bit 14", 3 DB13 (io) "Data Bit 13", 4 DB12 (io) "Data Bit 12", 5 DB11 (io) "Data Bit 11", 6 DB10 (io) "Data Bit 10", 7 DB9 (io) "Data Bit 9", 8 DB8 (io) "Data Bit 8", 9 DB7 (io) "Data Bit 7", 10 DB6 (io) "Data Bit 6", 11 DB5 (io) "Data Bit 5", 12 DB4 (io) "Data Bit 4", 13 DB3 (io) "Data Bit 3", 14 DB2 (io) "Data Bit 2", 15 DB1 (io) "Data Bit 1", 16 DB0 (LSB) (io) "Data Bit 0, LSB", 17 RSTSEL (in) "Reset Select. Determines the action of RST. If HIGH, a RST command will set the DAC registers to mid-scale. If LOW, a RST command will set the DAC registers to zero.", 18 RST (in) "Reset, Rising Edge Triggered. Depending on the state of RSTSEL, the DAC registers are set to either mid-scale or zero.", 19 LOADDACS (in) "DAC Output Registers Load Control. Rising edge triggered.", 20 R/~{W} (in) "Enabled by the C\S\, Controls Data Read and Write from the Input Registers.", 21 A1 (in) "Enabled by the C\S\, in Combination With A0 Selects the Individual DAC Input Registers.", 22 A0 (in) "Enabled by the C\S\, in Combination With A1 Selects the Individual DAC Input Registers.", 23 ~{CS} (in) "Chip Select. Active LOW.", 24 DGND (power) "Digital Ground", 25 VDD (power) "Positive Power Supply (digital)", 26 VCC (power) "Positive Power Supply (analog)", 27 AGND (power) "Analog Ground", 28 VSS (power) "Negative Power Supply", 29 VOUTD (out) "DAC D Voltage Output", 30 VOUTD SENSE (in) "DAC D’s Output Amplifier Inverting Input. Used to close the feedback loop at the load.", 31 VREFL CD SENSE (in) "DAC C and D Reference Low Sense Input", 32 VREFL CD (in) "DAC C and D Reference Low Input", 33 VREFH CD (in) "DAC C and D Reference High Input", 34 VREFH CD SENSE (in) "DAC C and D Reference High Sense Input", 35 VOUTC (out) "DAC C Voltage Output", 36 VOUTC SENSE (in) "DAC C’s Output Amplifier Inverting Input. Used to close the feedback loop at the load.", 37 VOUTB (out) "DAC B Voltage Output", 38 VOUTB SENSE (in) "DAC B’s Output Amplifier Inverting Input. Used to close the feedback loop at the load.", 39 VREFH AB SENSE (in) "DAC A and B Reference High Sense Input", 40 VREFH AB (in) "DAC A and B Reference High Input", 41 VREFL AB (in) "DAC A and B Reference Low Input", 42 VREFL AB SENSE (in) "DAC A and B Reference Low Sense Input", 43 VOUTA (out) "DAC A Voltage Output", 44 VOUTA SENSE (in) "DAC A’s Output Amplifier Inverting Input. Used to close the feedback loop at the load."
part B pins: 45 NC "No Connection", 46 NC "No Connection", 47 NC "No Connection", 48 NC "No Connection"

## DAC7744EC/1KG4
designator U?
16-Bit, Quad Voltage Output DAC, -40 to 85 degC, 48-pin SOP (DL48), Green (RoHS & no Sb/Br); Manufacturer: Texas Instruments; PartNumber: DAC7744EC/1KG4; DAC Channels: 4; DNL(Max)(+/-LSB): 1; INL(Max)(+/-LSB): 2; Interface: Parallel; Resolution(Bits): 16; Settling Time(us): 10; SubFamily: Precision DAC (=<10MSPS); DatasheetVersion: SBAS120; PackageVersion: 4040048/E, 12/2001; PackageReference: DL48; PackageDescription: 48-Pin Plastic Small Outline, Body 7.49 x 15.88 mm, Pitch 0.635 mm; Supplier 1: Digi-Key; Supplier Part Number 1: DAC7744EC/1KG4-ND; Supplier 2: Newark; Supplier Part Number 2: 99K1848; Supplier 3: Mouser; Supplier Part Number 3: 595-DAC7744EC/1KG4; Eco-Plan: Green (RoHS & no Sb/Br); Mounting Technology: Surface Mount; Code_JEDEC: MO-118; ComponentLink1Description: Manufacturer URL; ComponentLink1URL: http://www.ti.com/; ComponentLink2Description: Datasheet; ComponentLink2URL: http://www.ti.com/general/docs/lit/getliterature.tsp?genericPartNumber=DAC7744&fileType=pdf; ComponentLink3Description: Package Specification; ComponentLink3URL: http://www.ti.com/lit/ml/msso001c/msso001c.pdf
footprint TI-DL48_N (SOP, 48-Leads, Body 15.88x7.49mm, Pitch 0.635mm, IPC Medium Density)
footprint TI-DL48_L (SOP, 48-Leads, Body 15.88x7.49mm, Pitch 0.635mm, IPC High Density)
footprint TI-DL48_M (SOP, 48-Leads, Body 15.88x7.49mm, Pitch 0.635mm, IPC Low Density)
part A pins: 1 DB15 (MSB) (io) "Data Bit 15, MSB", 2 DB14 (io) "Data Bit 14", 3 DB13 (io) "Data Bit 13", 4 DB12 (io) "Data Bit 12", 5 DB11 (io) "Data Bit 11", 6 DB10 (io) "Data Bit 10", 7 DB9 (io) "Data Bit 9", 8 DB8 (io) "Data Bit 8", 9 DB7 (io) "Data Bit 7", 10 DB6 (io) "Data Bit 6", 11 DB5 (io) "Data Bit 5", 12 DB4 (io) "Data Bit 4", 13 DB3 (io) "Data Bit 3", 14 DB2 (io) "Data Bit 2", 15 DB1 (io) "Data Bit 1", 16 DB0 (LSB) (io) "Data Bit 0, LSB", 17 RSTSEL (in) "Reset Select. Determines the action of RST. If HIGH, a RST command will set the DAC registers to mid-scale. If LOW, a RST command will set the DAC registers to zero.", 18 RST (in) "Reset, Rising Edge Triggered. Depending on the state of RSTSEL, the DAC registers are set to either mid-scale or zero.", 19 LOADDACS (in) "DAC Output Registers Load Control. Rising edge triggered.", 20 R/~{W} (in) "Enabled by the C\S\, Controls Data Read and Write from the Input Registers.", 21 A1 (in) "Enabled by the C\S\, in Combination With A0 Selects the Individual DAC Input Registers.", 22 A0 (in) "Enabled by the C\S\, in Combination With A1 Selects the Individual DAC Input Registers.", 23 ~{CS} (in) "Chip Select. Active LOW.", 24 DGND (power) "Digital Ground", 25 VDD (power) "Positive Power Supply (digital)", 26 VCC (power) "Positive Power Supply (analog)", 27 AGND (power) "Analog Ground", 28 VSS (power) "Negative Power Supply", 29 VOUTD (out) "DAC D Voltage Output", 30 VOUTD SENSE (in) "DAC D’s Output Amplifier Inverting Input. Used to close the feedback loop at the load.", 31 VREFL CD SENSE (in) "DAC C and D Reference Low Sense Input", 32 VREFL CD (in) "DAC C and D Reference Low Input", 33 VREFH CD (in) "DAC C and D Reference High Input", 34 VREFH CD SENSE (in) "DAC C and D Reference High Sense Input", 35 VOUTC (out) "DAC C Voltage Output", 36 VOUTC SENSE (in) "DAC C’s Output Amplifier Inverting Input. Used to close the feedback loop at the load.", 37 VOUTB (out) "DAC B Voltage Output", 38 VOUTB SENSE (in) "DAC B’s Output Amplifier Inverting Input. Used to close the feedback loop at the load.", 39 VREFH AB SENSE (in) "DAC A and B Reference High Sense Input", 40 VREFH AB (in) "DAC A and B Reference High Input", 41 VREFL AB (in) "DAC A and B Reference Low Input", 42 VREFL AB SENSE (in) "DAC A and B Reference Low Sense Input", 43 VOUTA (out) "DAC A Voltage Output", 44 VOUTA SENSE (in) "DAC A’s Output Amplifier Inverting Input. Used to close the feedback loop at the load."
part B pins: 45 NC "No Connection", 46 NC "No Connection", 47 NC "No Connection", 48 NC "No Connection"